# Altium schematic symbol library Schlib_Alinx_Electronics.SchLib: 1 symbol
Pins are listed as number, name and electrical type; pins without a type are passive.

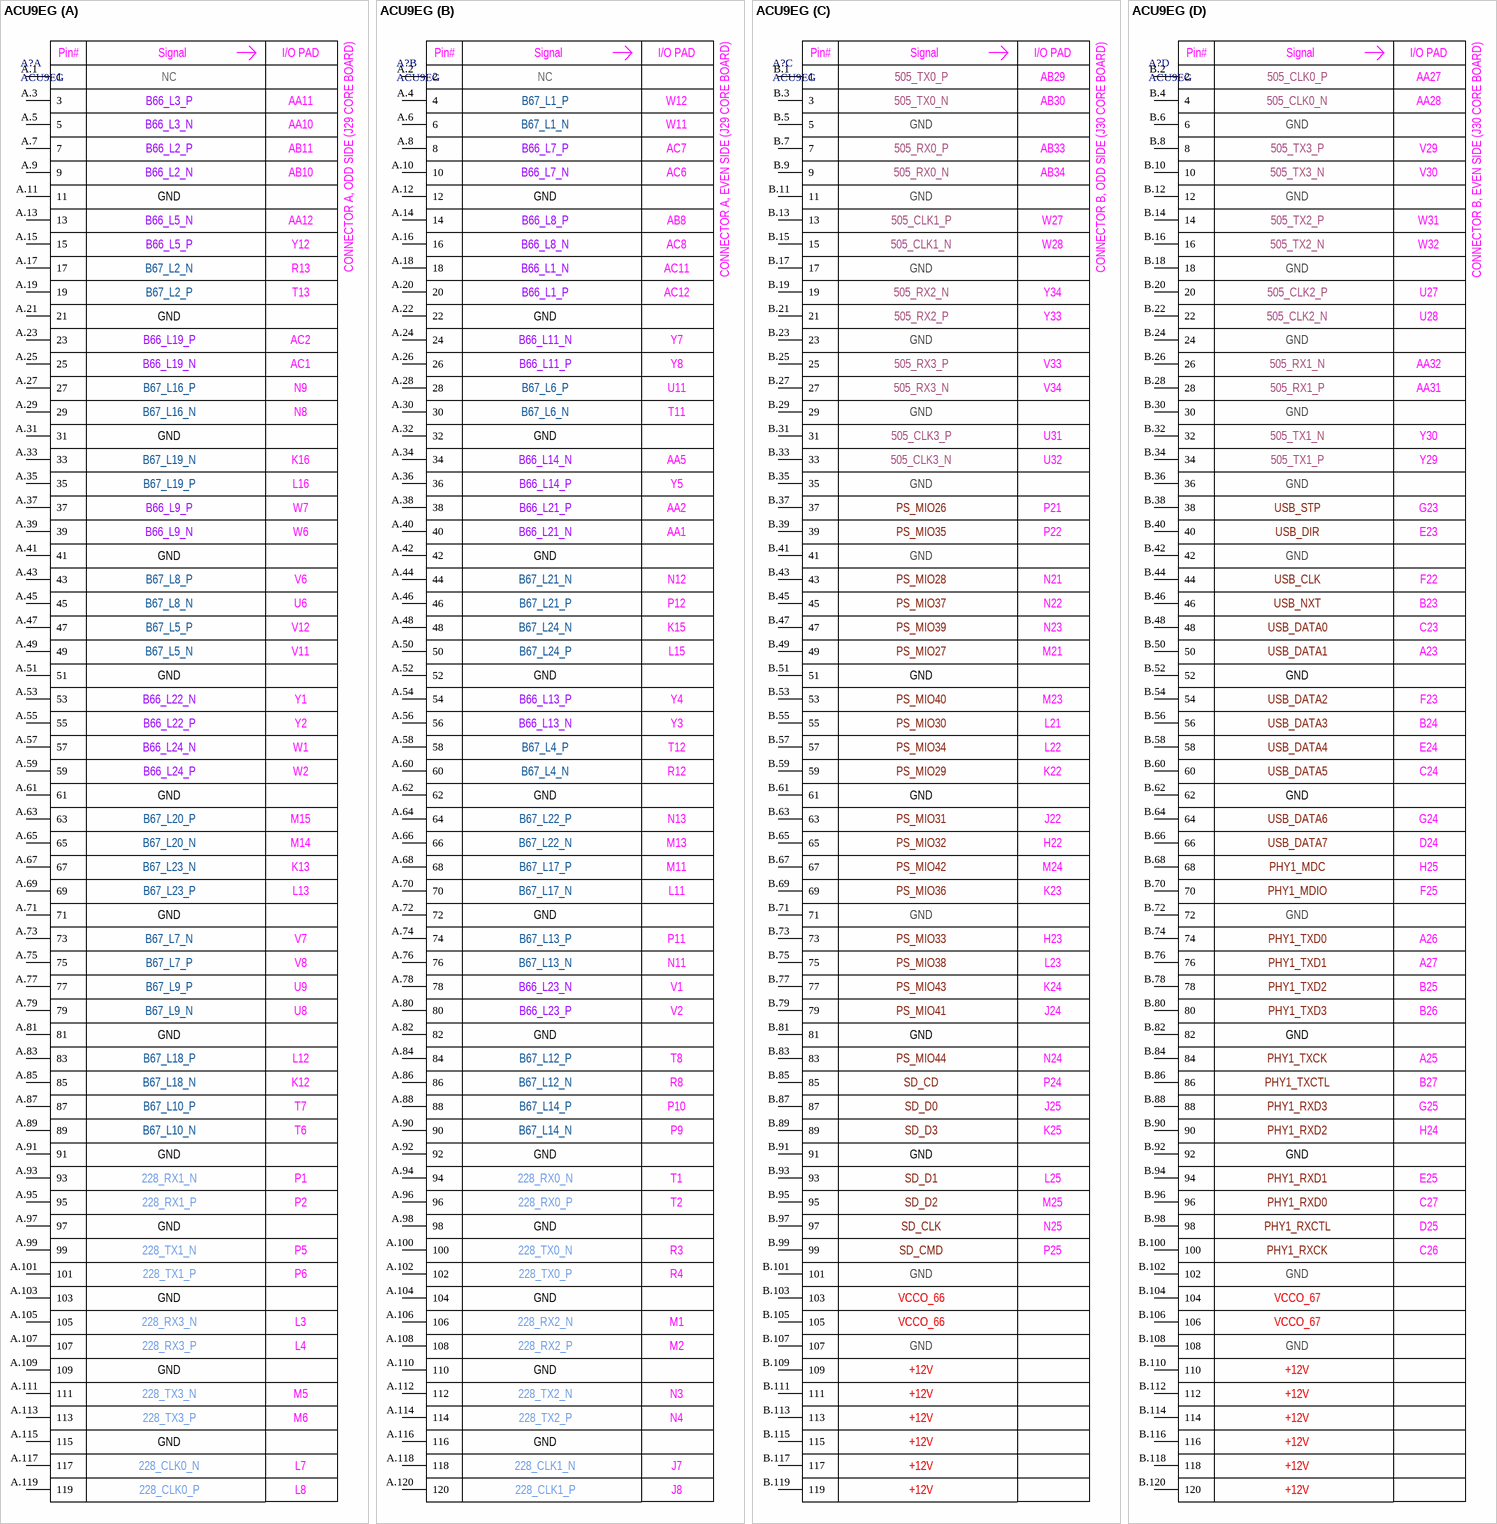
[diagram p0: symbol ACU9EG]

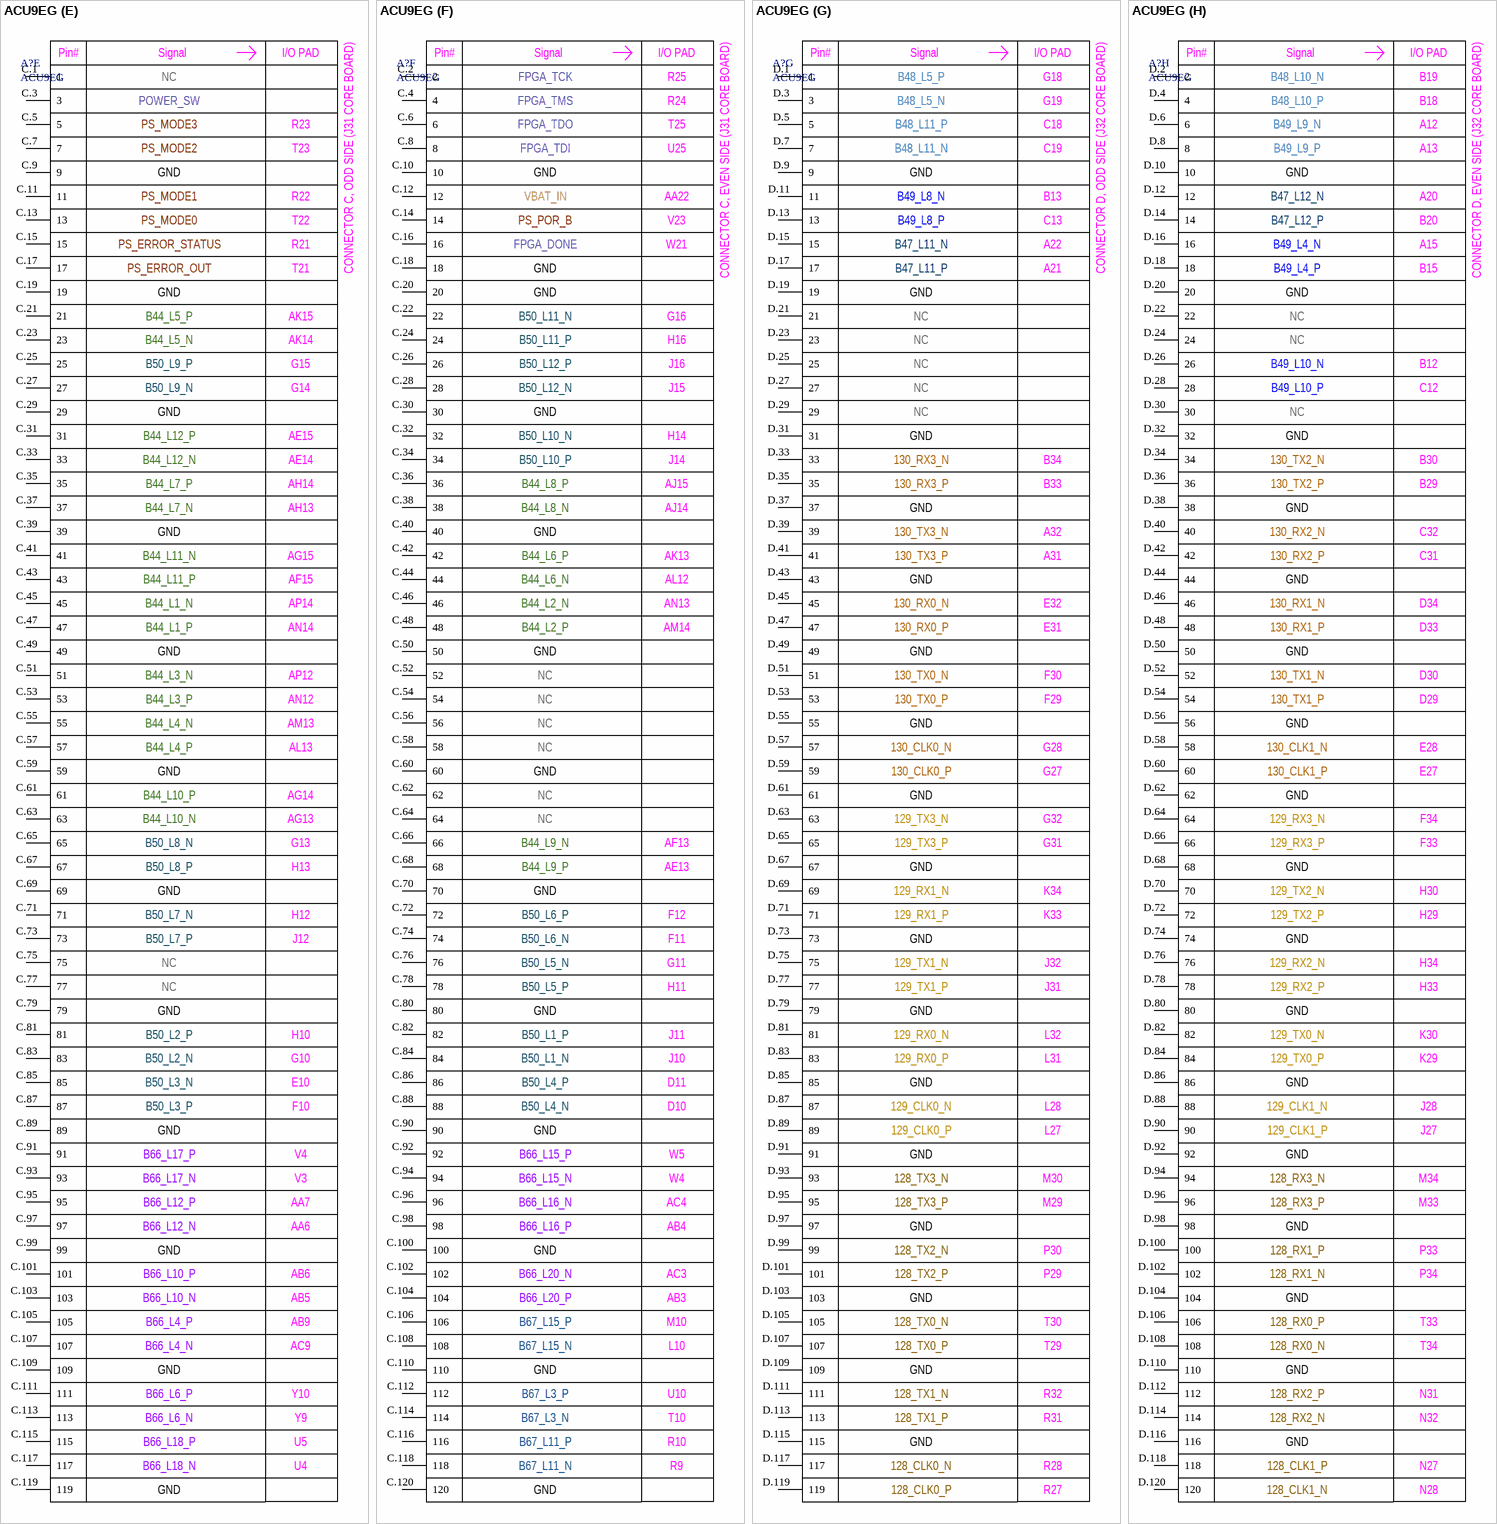
[diagram p1: symbol ACU9EG]

## ACU9EG
designator A?
ZYNQ UltraScale+ FPGA System On Module ACU9EG; Manufacturer: ALINX Electronics Technology; Part Number: ACU9EG
footprint ACU9EG
part A pins: A.1 1, A.3 3, A.5 5, A.7 7, A.9 9, A.11 11, A.13 13, A.15 15, A.17 17, A.19 19, A.21 21, A.23 23, A.25 25, A.27 27, A.29 29, A.31 31, A.33 33, A.35 35, A.37 37, A.39 39, A.41 41, A.43 43, A.45 45, A.47 47, A.49 49, A.51 51, A.53 53, A.55 55, A.57 57, A.59 59, A.61 61, A.63 63, A.65 65, A.67 67, A.69 69, A.71 71, A.73 73, A.75 75, A.77 77, A.79 79, A.81 81, A.83 83, A.85 85, A.87 87, A.89 89, A.91 91, A.93 93, A.95 95, A.97 97, A.99 99, A.101 101, A.103 103, A.105 105, A.107 107, A.109 109, A.111 111, A.113 113, A.115 115, A.117 117, A.119 119
part B pins: A.2 2, A.4 4, A.6 6, A.8 8, A.10 10, A.12 12, A.14 14, A.16 16, A.18 18, A.20 20, A.22 22, A.24 24, A.26 26, A.28 28, A.30 30, A.32 32, A.34 34, A.36 36, A.38 38, A.40 40, A.42 42, A.44 44, A.46 46, A.48 48, A.50 50, A.52 52, A.54 54, A.56 56, A.58 58, A.60 60, A.62 62, A.64 64, A.66 66, A.68 68, A.70 70, A.72 72, A.74 74, A.76 76, A.78 78, A.80 80, A.82 82, A.84 84, A.86 86, A.88 88, A.90 90, A.92 92, A.94 94, A.96 96, A.98 98, A.100 100, A.102 102, A.104 104, A.106 106, A.108 108, A.110 110, A.112 112, A.114 114, A.116 116, A.118 118, A.120 120
part C pins: B.1 1, B.3 3, B.5 5, B.7 7, B.9 9, B.11 11, B.13 13, B.15 15, B.17 17, B.19 19, B.21 21, B.23 23, B.25 25, B.27 27, B.29 29, B.31 31, B.33 33, B.35 35, B.37 37, B.39 39, B.41 41, B.43 43, B.45 45, B.47 47, B.49 49, B.51 51, B.53 53, B.55 55, B.57 57, B.59 59, B.61 61, B.63 63, B.65 65, B.67 67, B.69 69, B.71 71, B.73 73, B.75 75, B.77 77, B.79 79, B.81 81, B.83 83, B.85 85, B.87 87, B.89 89, B.91 91, B.93 93, B.95 95, B.97 97, B.99 99, B.101 101, B.103 103, B.105 105, B.107 107, B.109 109, B.111 111, B.113 113, B.115 115, B.117 117, B.119 119
part D pins: B.2 2, B.4 4, B.6 6, B.8 8, B.10 10, B.12 12, B.14 14, B.16 16, B.18 18, B.20 20, B.22 22, B.24 24, B.26 26, B.28 28, B.30 30, B.32 32, B.34 34, B.36 36, B.38 38, B.40 40, B.42 42, B.44 44, B.46 46, B.48 48, B.50 50, B.52 52, B.54 54, B.56 56, B.58 58, B.60 60, B.62 62, B.64 64, B.66 66, B.68 68, B.70 70, B.72 72, B.74 74, B.76 76, B.78 78, B.80 80, B.82 82, B.84 84, B.86 86, B.88 88, B.90 90, B.92 92, B.94 94, B.96 96, B.98 98, B.100 100, B.102 102, B.104 104, B.106 106, B.108 108, B.110 110, B.112 112, B.114 114, B.116 116, B.118 118, B.120 120
part E pins: C.1 1, C.3 3, C.5 5, C.7 7, C.9 9, C.11 11, C.13 13, C.15 15, C.17 17, C.19 19, C.21 21, C.23 23, C.25 25, C.27 27, C.29 29, C.31 31, C.33 33, C.35 35, C.37 37, C.39 39, C.41 41, C.43 43, C.45 45, C.47 47, C.49 49, C.51 51, C.53 53, C.55 55, C.57 57, C.59 59, C.61 61, C.63 63, C.65 65, C.67 67, C.69 69, C.71 71, C.73 73, C.75 75, C.77 77, C.79 79, C.81 81, C.83 83, C.85 85, C.87 87, C.89 89, C.91 91, C.93 93, C.95 95, C.97 97, C.99 99, C.101 101, C.103 103, C.105 105, C.107 107, C.109 109, C.111 111, C.113 113, C.115 115, C.117 117, C.119 119
part F pins: C.2 2, C.4 4, C.6 6, C.8 8, C.10 10, C.12 12, C.14 14, C.16 16, C.18 18, C.20 20, C.22 22, C.24 24, C.26 26, C.28 28, C.30 30, C.32 32, C.34 34, C.36 36, C.38 38, C.40 40, C.42 42, C.44 44, C.46 46, C.48 48, C.50 50, C.52 52, C.54 54, C.56 56, C.58 58, C.60 60, C.62 62, C.64 64, C.66 66, C.68 68, C.70 70, C.72 72, C.74 74, C.76 76, C.78 78, C.80 80, C.82 82, C.84 84, C.86 86, C.88 88, C.90 90, C.92 92, C.94 94, C.96 96, C.98 98, C.100 100, C.102 102, C.104 104, C.106 106, C.108 108, C.110 110, C.112 112, C.114 114, C.116 116, C.118 118, C.120 120
part G pins: D.1 1, D.3 3, D.5 5, D.7 7, D.9 9, D.11 11, D.13 13, D.15 15, D.17 17, D.19 19, D.21 21, D.23 23, D.25 25, D.27 27, D.29 29, D.31 31, D.33 33, D.35 35, D.37 37, D.39 39, D.41 41, D.43 43, D.45 45, D.47 47, D.49 49, D.51 51, D.53 53, D.55 55, D.57 57, D.59 59, D.61 61, D.63 63, D.65 65, D.67 67, D.69 69, D.71 71, D.73 73, D.75 75, D.77 77, D.79 79, D.81 81, D.83 83, D.85 85, D.87 87, D.89 89, D.91 91, D.93 93, D.95 95, D.97 97, D.99 99, D.101 101, D.103 103, D.105 105, D.107 107, D.109 109, D.111 111, D.113 113, D.115 115, D.117 117, D.119 119
part H pins: D.2 2, D.4 4, D.6 6, D.8 8, D.10 10, D.12 12, D.14 14, D.16 16, D.18 18, D.20 20, D.22 22, D.24 24, D.26 26, D.28 28, D.30 30, D.32 32, D.34 34, D.36 36, D.38 38, D.40 40, D.42 42, D.44 44, D.46 46, D.48 48, D.50 50, D.52 52, D.54 54, D.56 56, D.58 58, D.60 60, D.62 62, D.64 64, D.66 66, D.68 68, D.70 70, D.72 72, D.74 74, D.76 76, D.78 78, D.80 80, D.82 82, D.84 84, D.86 86, D.88 88, D.90 90, D.92 92, D.94 94, D.96 96, D.98 98, D.100 100, D.102 102, D.104 104, D.106 106, D.108 108, D.110 110, D.112 112, D.114 114, D.116 116, D.118 118, D.120 120
part A text: CONNECTOR A, ODD SIDE (J29 CORE BOARD); Pin#; Signal; I/O PAD; NC; B66_L3_P; AA11; B66_L3_N; AA10; B66_L2_P; AB11; B66_L2_N; AB10; GND; B66_L5_N; AA12; B66_L5_P; Y12; B67_L2_N; R13; B67_L2_P; T13; B66_L19_P; AC2; B66_L19_N; AC1; B67_L16_P; N9; B67_L16_N; N8; B67_L19_N; K16; B67_L19_P; L16; B66_L9_P; W7; B66_L9_N; W6; B67_L8_P; V6; B67_L8_N; U6; B67_L5_P; V12; B67_L5_N; V11; B66_L22_N; Y1; B66_L22_P; Y2; B66_L24_N; W1; B66_L24_P; W2; B67_L20_P; M15; B67_L20_N; M14; B67_L23_N; K13; B67_L23_P; L13; B67_L7_N; V7; B67_L7_P; V8; B67_L9_P; U9; B67_L9_N; U8; B67_L18_P; L12; B67_L18_N; K12; B67_L10_P; T7; B67_L10_N; T6; 228_RX1_N; P1; 228_RX1_P; P2; 228_TX1_N; P5; 228_TX1_P; P6; 228_RX3_N; L3; 228_RX3_P; L4; 228_TX3_N; M5; 228_TX3_P; M6; 228_CLK0_N; L7; 228_CLK0_P; L8
part B text: CONNECTOR A, EVEN SIDE (J29 CORE BOARD); Pin#; Signal; I/O PAD; NC; B67_L1_P; W12; B67_L1_N; W11; B66_L7_P; AC7; B66_L7_N; AC6; GND; B66_L8_P; AB8; B66_L8_N; AC8; B66_L1_N; AC11; B66_L1_P; AC12; B66_L11_N; Y7; B66_L11_P; Y8; B67_L6_P; U11; B67_L6_N; T11; B66_L14_N; AA5; B66_L14_P; Y5; B66_L21_P; AA2; B66_L21_N; AA1; B67_L21_N; N12; B67_L21_P; P12; B67_L24_N; K15; B67_L24_P; L15; B66_L13_P; Y4; B66_L13_N; Y3; B67_L4_P; T12; B67_L4_N; R12; B67_L22_P; N13; B67_L22_N; M13; B67_L17_P; M11; B67_L17_N; L11; B67_L13_P; P11; B67_L13_N; N11; B66_L23_N; V1; B66_L23_P; V2; B67_L12_P; T8; B67_L12_N; R8; B67_L14_P; P10; B67_L14_N; P9; 228_RX0_N; T1; 228_RX0_P; T2; 228_TX0_N; R3; 228_TX0_P; R4; 228_RX2_N; M1; 228_RX2_P; M2; 228_TX2_N; N3; 228_TX2_P; N4; 228_CLK1_N; J7; 228_CLK1_P; J8
part C text: CONNECTOR B, ODD SIDE (J30 CORE BOARD); Pin#; Signal; I/O PAD; 505_TX0_P; AB29; 505_TX0_N; AB30; GND; 505_RX0_P; AB33; 505_RX0_N; AB34; 505_CLK1_P; W27; 505_CLK1_N; W28; 505_RX2_N; Y34; 505_RX2_P; Y33; 505_RX3_P; V33; 505_RX3_N; V34; 505_CLK3_P; U31; 505_CLK3_N; U32; PS_MIO26; P21; PS_MIO35; P22; PS_MIO28; N21; PS_MIO37; N22; PS_MIO39; N23; PS_MIO27; M21; PS_MIO40; M23; PS_MIO30; L21; PS_MIO34; L22; PS_MIO29; K22; PS_MIO31; J22; PS_MIO32; H22; PS_MIO42; M24; PS_MIO36; K23; PS_MIO33; H23; PS_MIO38; L23; PS_MIO43; K24; PS_MIO41; J24; PS_MIO44; N24; SD_CD; P24; SD_D0; J25; SD_D3; K25; SD_D1; L25; SD_D2; M25; SD_CLK; N25; SD_CMD; P25; VCCO_66; +12V
part D text: CONNECTOR B, EVEN SIDE (J30 CORE BOARD); Pin#; Signal; I/O PAD; 505_CLK0_P; AA27; 505_CLK0_N; AA28; GND; 505_TX3_P; V29; 505_TX3_N; V30; 505_TX2_P; W31; 505_TX2_N; W32; 505_CLK2_P; U27; 505_CLK2_N; U28; 505_RX1_N; AA32; 505_RX1_P; AA31; 505_TX1_N; Y30; 505_TX1_P; Y29; USB_STP; G23; USB_DIR; E23; USB_CLK; F22; USB_NXT; B23; USB_DATA0; C23; USB_DATA1; A23; USB_DATA2; F23; USB_DATA3; B24; USB_DATA4; E24; USB_DATA5; C24; USB_DATA6; G24; USB_DATA7; D24; PHY1_MDC; H25; PHY1_MDIO; F25; PHY1_TXD0; A26; PHY1_TXD1; A27; PHY1_TXD2; B25; PHY1_TXD3; B26; PHY1_TXCK; A25; PHY1_TXCTL; B27; PHY1_RXD3; G25; PHY1_RXD2; H24; PHY1_RXD1; E25; PHY1_RXD0; C27; PHY1_RXCTL; D25; PHY1_RXCK; C26; VCCO_67; +12V
part E text: CONNECTOR C, ODD SIDE (J31 CORE BOARD); Pin#; Signal; I/O PAD; NC; POWER_SW; PS_MODE3; R23; PS_MODE2; T23; GND; PS_MODE1; R22; PS_MODE0; T22; PS_ERROR_STATUS; R21; PS_ERROR_OUT; T21; B44_L5_P; AK15; B44_L5_N; AK14; B50_L9_P; G15; B50_L9_N; G14; B44_L12_P; AE15; B44_L12_N; AE14; B44_L7_P; AH14; B44_L7_N; AH13; B44_L11_N; AG15; B44_L11_P; AF15; B44_L1_N; AP14; B44_L1_P; AN14; B44_L3_N; AP12; B44_L3_P; AN12; B44_L4_N; AM13; B44_L4_P; AL13; B44_L10_P; AG14; B44_L10_N; AG13; B50_L8_N; G13; B50_L8_P; H13; B50_L7_N; H12; B50_L7_P; J12; B50_L2_P; H10; B50_L2_N; G10; B50_L3_N; E10; B50_L3_P; F10; B66_L17_P; V4; B66_L17_N; V3; B66_L12_P; AA7; B66_L12_N; AA6; B66_L10_P; AB6; B66_L10_N; AB5; B66_L4_P; AB9; B66_L4_N; AC9; B66_L6_P; Y10; B66_L6_N; Y9; B66_L18_P; U5; B66_L18_N; U4
part F text: CONNECTOR C, EVEN SIDE (J31 CORE BOARD); Pin#; Signal; I/O PAD; FPGA_TCK; R25; FPGA_TMS; R24; FPGA_TDO; T25; FPGA_TDI; U25; GND; VBAT_IN; AA22; PS_POR_B; V23; FPGA_DONE; W21; B50_L11_N; G16; B50_L11_P; H16; B50_L12_P; J16; B50_L12_N; J15; B50_L10_N; H14; B50_L10_P; J14; B44_L8_P; AJ15; B44_L8_N; AJ14; B44_L6_P; AK13; B44_L6_N; AL12; B44_L2_N; AN13; B44_L2_P; AM14; NC; B44_L9_N; AF13; B44_L9_P; AE13; B50_L6_P; F12; B50_L6_N; F11; B50_L5_N; G11; B50_L5_P; H11; B50_L1_P; J11; B50_L1_N; J10; B50_L4_P; D11; B50_L4_N; D10; B66_L15_P; W5; B66_L15_N; W4; B66_L16_N; AC4; B66_L16_P; AB4; B66_L20_N; AC3; B66_L20_P; AB3; B67_L15_P; M10; B67_L15_N; L10; B67_L3_P; U10; B67_L3_N; T10; B67_L11_P; R10; B67_L11_N; R9
part G text: CONNECTOR D, ODD SIDE (J32 CORE BOARD); Pin#; Signal; I/O PAD; B48_L5_P; G18; B48_L5_N; G19; B48_L11_P; C18; B48_L11_N; C19; GND; B49_L8_N; B13; B49_L8_P; C13; B47_L11_N; A22; B47_L11_P; A21; NC; 130_RX3_N; B34; 130_RX3_P; B33; 130_TX3_N; A32; 130_TX3_P; A31; 130_RX0_N; E32; 130_RX0_P; E31; 130_TX0_N; F30; 130_TX0_P; F29; 130_CLK0_N; G28; 130_CLK0_P; G27; 129_TX3_N; G32; 129_TX3_P; G31; 129_RX1_N; K34; 129_RX1_P; K33; 129_TX1_N; J32; 129_TX1_P; J31; 129_RX0_N; L32; 129_RX0_P; L31; 129_CLK0_N; L28; 129_CLK0_P; L27; 128_TX3_N; M30; 128_TX3_P; M29; 128_TX2_N; P30; 128_TX2_P; P29; 128_TX0_N; T30; 128_TX0_P; T29; 128_TX1_N; R32; 128_TX1_P; R31; 128_CLK0_N; R28; 128_CLK0_P; R27
part H text: CONNECTOR D, EVEN SIDE (J32 CORE BOARD); Pin#; Signal; I/O PAD; B48_L10_N; B19; B48_L10_P; B18; B49_L9_N; A12; B49_L9_P; A13; GND; B47_L12_N; A20; B47_L12_P; B20; B49_L4_N; A15; B49_L4_P; B15; NC; B49_L10_N; B12; B49_L10_P; C12; 130_TX2_N; B30; 130_TX2_P; B29; 130_RX2_N; C32; 130_RX2_P; C31; 130_RX1_N; D34; 130_RX1_P; D33; 130_TX1_N; D30; 130_TX1_P; D29; 130_CLK1_N; E28; 130_CLK1_P; E27; 129_RX3_N; F34; 129_RX3_P; F33; 129_TX2_N; H30; 129_TX2_P; H29; 129_RX2_N; H34; 129_RX2_P; H33; 129_TX0_N; K30; 129_TX0_P; K29; 129_CLK1_N; J28; 129_CLK1_P; J27; 128_RX3_N; M34; 128_RX3_P; M33; 128_RX1_P; P33; 128_RX1_N; P34; 128_RX0_P; T33; 128_RX0_N; T34; 128_RX2_P; N31; 128_RX2_N; N32; 128_CLK1_P; N27; 128_CLK1_N; N28